# Altium integrated library Renesas Memory.IntLib: 284 symbols (part 2 of 9)
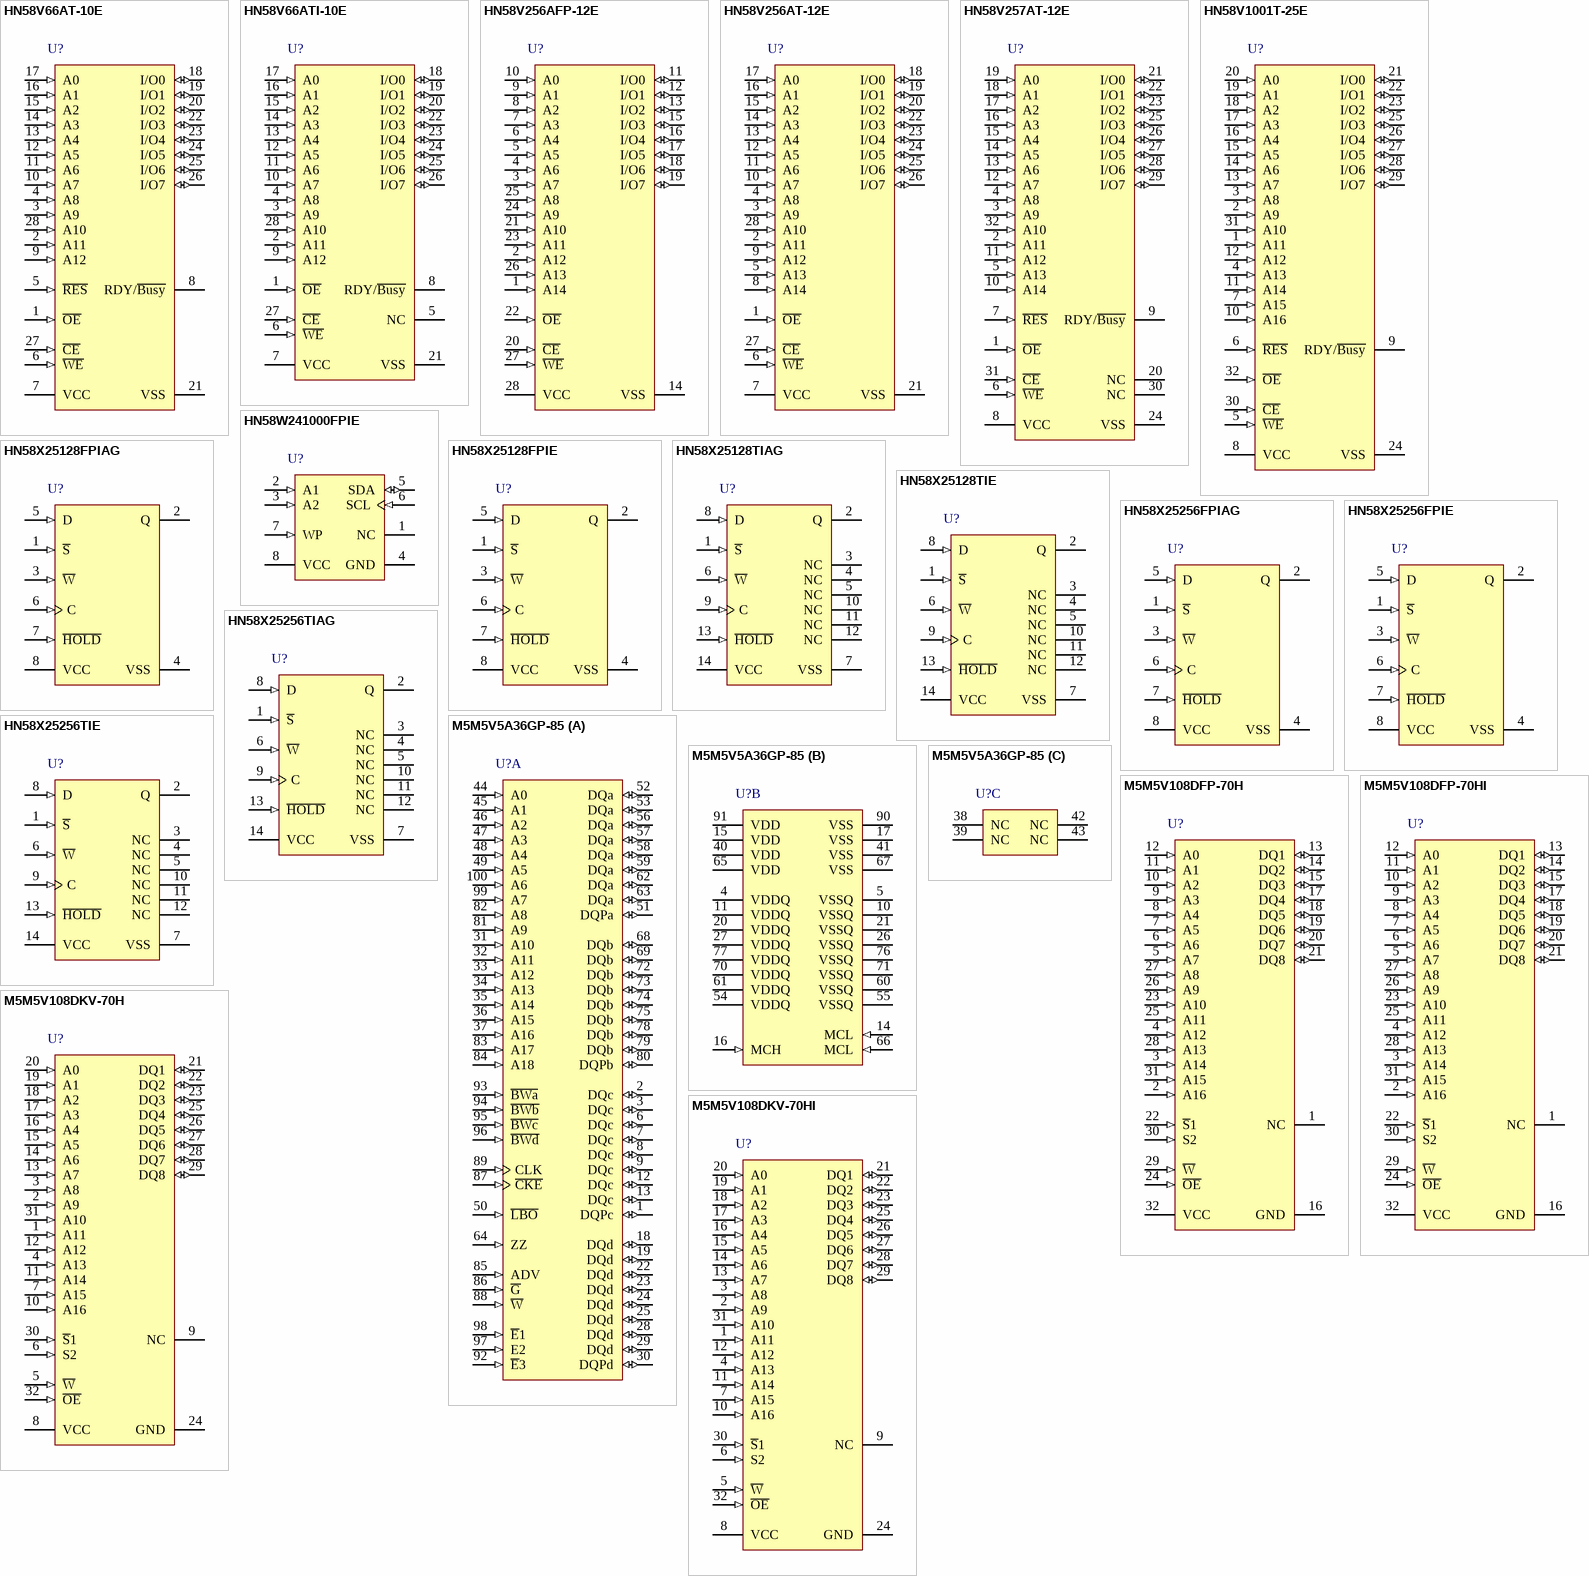
[diagram p16: symbols HN58V66AT-10E to M5M5V108DKV-70HI]

## HN58V1001T-25E
designator U?
HN58V1001 Series 1M EEPROM (128-kword × 8-bit) Ready/Busy and RES function; Published: 3-Mar-2010; DatasheetVersion: Rev.8.00, Nov-2003; PackageVersion: Oct-2006; PackageReference: PTSA0032KD-A; Publisher: Altium Limited; PackageDescription: 32-Pin Plastic Thin Shrink Small Outline Package 0.5 mm Pitch; Code_JEITA: P-TSOP(1)32-8x12.4-0.50; ComponentLink1Description: Manufacturer Link; ComponentLink1URL: http://sg.renesas.com/products/memory/memory_category_landing.jsp; ComponentLink2Description: Datasheet; ComponentLink2URL: http://documentation.renesas.com/eng/products/memory/rej03c0146_hn58v1001.pdf; ComponentLink3Description: Packaging Specification; ComponentLink3URL: http://sg.renesas.com/media/products/common_info/package/pdf/ic/code/ptsa0032kd_a.pdf
footprint PTSA0032KD-A_N (TSSOP, 32-Leads, Body 8x12.4mm, Pitch 0.5mm, IPC Medium Density)
footprint PTSA0032KD-A_L (TSSOP, 32-Leads, Body 8x12.4mm, Pitch 0.5mm, IPC High Density)
footprint PTSA0032KD-A_M (TSSOP, 32-Leads, Body 8x12.4mm, Pitch 0.5mm, IPC Low Density)
pins: 1 A11 (in), 2 A9 (in), 3 A8 (in), 4 A13 (in), 5 ~{WE} (in), 6 ~{RES} (in), 7 A15 (in), 8 VCC (power), 9 RDY/~{Busy} (hiz), 10 A16 (in), 11 A14 (in), 12 A12 (in), 13 A7 (in), 14 A6 (in), 15 A5 (in), 16 A4 (in), 17 A3 (in), 18 A2 (in), 19 A1 (in), 20 A0 (in), 21 I/O0 (io), 22 I/O1 (io), 23 I/O2 (io), 24 VSS (power), 25 I/O3 (io), 26 I/O4 (io), 27 I/O5 (io), 28 I/O6 (io), 29 I/O7 (io), 30 ~{CE} (in), 31 A10 (in), 32 ~{OE} (in)

## HN58W241000FPIE
designator U?
HN58W241000I Two-wire serial interface 1M EEPROM (128-kword × 8-bit); Published: 3-Mar-2010; DatasheetVersion: Rev.3.00, Jul-2005; PackageVersion: Sep-2005; PackageReference: PRSP0008DG-B; Publisher: Altium Limited; PackageDescription: 8-Pin Plastic Small Outline Package 1.27 mm Pitch; Code_JEITA: P-SOP8-5.3x5.65-1.27; ComponentLink1Description: Manufacturer Link; ComponentLink1URL: http://sg.renesas.com/products/memory/memory_category_landing.jsp; ComponentLink2Description: Datasheet; ComponentLink2URL: http://documentation.renesas.com/eng/products/memory/rej03c0138_hn58w24100i.pdf; ComponentLink3Description: Packaging Specification; ComponentLink3URL: http://sg.renesas.com/media/products/common_info/package/pdf/ic/code/prsp0008dg_b.pdf
footprint PRSP0008DG-B_N (SOP, 8-Leads, Body 5.65x5.3mm, Pitch 1.27mm, IPC Medium Density)
footprint PRSP0008DG-B_L (SOP, 8-Leads, Body 5.65x5.3mm, Pitch 1.27mm, IPC High Density)
footprint PRSP0008DG-B_M (SOP, 8-Leads, Body 5.65x5.3mm, Pitch 1.27mm, IPC Low Density)
pins: 1 NC, 2 A1 (in), 3 A2 (in), 4 GND (power), 5 SDA (io), 6 SCL (in), 7 WP (in), 8 VCC (power)

## HN58X25128FPIAG
designator U?
HN58X25xxx Series 128k EEPROM (16-kword × 8-bit); Published: 3-Mar-2010; DatasheetVersion: Rev.1.01, Jan-2009; PackageVersion: Sep-2005; PackageReference: PRSP0008DF-B; Publisher: Altium Limited; PackageDescription: 8-Pin Plastic Small Outline Integrated Circuit 1.27 mm Pitch; Code_JEITA: P-SOP8-3.9x4.89-1.27; ComponentLink1Description: Manufacturer Link; ComponentLink1URL: http://sg.renesas.com/products/memory/memory_category_landing.jsp; ComponentLink2Description: Datasheet; ComponentLink2URL: http://documentation.renesas.com/eng/products/memory/rej03c0307_hn58x25128_256iagds.pdf; ComponentLink3Description: Packaging Specification; ComponentLink3URL: http://sg.renesas.com/media/products/common_info/package/pdf/ic/code/prsp0008df_b.pdf
footprint PRSP0008DF-B_N (SOIC, 8-Leads, Body 4.9x3.9mm, Pitch 1.27mm, IPC Medium Density)
footprint PRSP0008DF-B_L (SOIC, 8-Leads, Body 4.9x3.9mm, Pitch 1.27mm, IPC High Density)
footprint PRSP0008DF-B_M (SOIC, 8-Leads, Body 4.9x3.9mm, Pitch 1.27mm, IPC Low Density)
pins: 1 ~{S} (in), 2 Q (hiz), 3 ~{W} (in), 4 VSS (power), 5 D (in), 6 C (in), 7 ~{HOLD} (in), 8 VCC (power)

## HN58X25128FPIE
designator U?
HN58X25xxx Series 256k EEPROM (32-kword × 8-bit); Published: 3-Mar-2010; DatasheetVersion: Rev.3.00, Jul-2005; PackageVersion: Sep-2005; PackageReference: PRSP0008DF-B; Publisher: Altium Limited; PackageDescription: 8-Pin Plastic Small Outline Integrated Circuit 1.27 mm Pitch; Code_JEITA: P-SOP8-3.9x4.89-1.27; ComponentLink1Description: Manufacturer Link; ComponentLink1URL: http://sg.renesas.com/products/memory/memory_category_landing.jsp; ComponentLink2Description: Datasheet; ComponentLink2URL: http://documentation.renesas.com/eng/products/memory/rej03c0059_hn58x25128i.pdf; ComponentLink3Description: Packaging Specification; ComponentLink3URL: http://sg.renesas.com/media/products/common_info/package/pdf/ic/code/prsp0008df_b.pdf
footprint PRSP0008DF-B_N (SOIC, 8-Leads, Body 4.9x3.9mm, Pitch 1.27mm, IPC Medium Density)
footprint PRSP0008DF-B_L (SOIC, 8-Leads, Body 4.9x3.9mm, Pitch 1.27mm, IPC High Density)
footprint PRSP0008DF-B_M (SOIC, 8-Leads, Body 4.9x3.9mm, Pitch 1.27mm, IPC Low Density)
pins: 1 ~{S} (in), 2 Q (hiz), 3 ~{W} (in), 4 VSS (power), 5 D (in), 6 C (in), 7 ~{HOLD} (in), 8 VCC (power)

## HN58X25128TIAG
designator U?
HN58X25xxx Series 128k EEPROM (16-kword × 8-bit); Published: 3-Mar-2010; DatasheetVersion: Rev.1.01, Jan-2009; PackageVersion: Sep-2005; PackageReference: PTSP0014JA-C; Publisher: Altium Limited; PackageDescription: 14-Pin Plastic Thin Small Outline Package 0.65 mm Pitch; Code_JEITA: P-TSSOP14-4.4x5-0.65; ComponentLink1Description: Manufacturer Link; ComponentLink1URL: http://sg.renesas.com/products/memory/memory_category_landing.jsp; ComponentLink2Description: Datasheet; ComponentLink2URL: http://documentation.renesas.com/eng/products/memory/rej03c0307_hn58x25128_256iagds.pdf; ComponentLink3Description: Packaging Specification; ComponentLink3URL: http://sg.renesas.com/media/products/common_info/package/pdf/ic/code/ptsp0014ja_c.pdf
footprint PTSP0014JA-C_N (TSOP, 14-Leads, Body 5x4.4mm, Pitch 0.65mm, IPC Medium Density)
footprint PTSP0014JA-C_L (TSOP, 14-Leads, Body 5x4.4mm, Pitch 0.65mm, IPC High Density)
footprint PTSP0014JA-C_M (TSOP, 14-Leads, Body 5x4.4mm, Pitch 0.65mm, IPC Low Density)
pins: 1 ~{S} (in), 2 Q (hiz), 3 NC, 4 NC, 5 NC, 6 ~{W} (in), 7 VSS (power), 8 D (in), 9 C (in), 10 NC, 11 NC, 12 NC, 13 ~{HOLD} (in), 14 VCC (power)

## HN58X25128TIE
designator U?
HN58X25xxx Series 256k EEPROM (32-kword × 8-bit); Published: 3-Mar-2010; DatasheetVersion: Rev.3.00, Jul-2005; PackageVersion: Sep-2005; PackageReference: PTSP0014JA-C; Publisher: Altium Limited; PackageDescription: 14-Pin Plastic Thin Small Outline Package 0.65 mm Pitch; Code_JEITA: P-TSSOP14-4.4x5-0.65; ComponentLink1Description: Manufacturer Link; ComponentLink1URL: http://sg.renesas.com/products/memory/memory_category_landing.jsp; ComponentLink2Description: Datasheet; ComponentLink2URL: http://documentation.renesas.com/eng/products/memory/rej03c0059_hn58x25128i.pdf; ComponentLink3Description: Packaging Specification; ComponentLink3URL: http://sg.renesas.com/media/products/common_info/package/pdf/ic/code/ptsp0014ja_c.pdf
footprint PTSP0014JA-C_N (TSOP, 14-Leads, Body 5x4.4mm, Pitch 0.65mm, IPC Medium Density)
footprint PTSP0014JA-C_L (TSOP, 14-Leads, Body 5x4.4mm, Pitch 0.65mm, IPC High Density)
footprint PTSP0014JA-C_M (TSOP, 14-Leads, Body 5x4.4mm, Pitch 0.65mm, IPC Low Density)
pins: 1 ~{S} (in), 2 Q (hiz), 3 NC, 4 NC, 5 NC, 6 ~{W} (in), 7 VSS (power), 8 D (in), 9 C (in), 10 NC, 11 NC, 12 NC, 13 ~{HOLD} (in), 14 VCC (power)

## HN58X25256FPIAG
designator U?
HN58X25xxx Series 256k EEPROM (32-kword × 8-bit); Published: 3-Mar-2010; DatasheetVersion: Rev.1.01, Jan-2009; PackageVersion: Sep-2005; PackageReference: PRSP0008DF-B; Publisher: Altium Limited; PackageDescription: 8-Pin Plastic Small Outline Integrated Circuit 1.27 mm Pitch; Code_JEITA: P-SOP8-3.9x4.89-1.27; ComponentLink1Description: Manufacturer Link; ComponentLink1URL: http://sg.renesas.com/products/memory/memory_category_landing.jsp; ComponentLink2Description: Datasheet; ComponentLink2URL: http://documentation.renesas.com/eng/products/memory/rej03c0307_hn58x25128_256iagds.pdf; ComponentLink3Description: Packaging Specification; ComponentLink3URL: http://sg.renesas.com/media/products/common_info/package/pdf/ic/code/prsp0008df_b.pdf
footprint PRSP0008DF-B_N (SOIC, 8-Leads, Body 4.9x3.9mm, Pitch 1.27mm, IPC Medium Density)
footprint PRSP0008DF-B_L (SOIC, 8-Leads, Body 4.9x3.9mm, Pitch 1.27mm, IPC High Density)
footprint PRSP0008DF-B_M (SOIC, 8-Leads, Body 4.9x3.9mm, Pitch 1.27mm, IPC Low Density)
pins: 1 ~{S} (in), 2 Q (hiz), 3 ~{W} (in), 4 VSS (power), 5 D (in), 6 C (in), 7 ~{HOLD} (in), 8 VCC (power)

## HN58X25256FPIE
designator U?
HN58X25xxx Series 256k EEPROM (32-kword × 8-bit); Published: 3-Mar-2010; DatasheetVersion: Rev.3.00, Jul-2005; PackageVersion: Sep-2005; PackageReference: PRSP0008DF-B; Publisher: Altium Limited; PackageDescription: 8-Pin Plastic Small Outline Integrated Circuit 1.27 mm Pitch; Code_JEITA: P-SOP8-3.9x4.89-1.27; ComponentLink1Description: Manufacturer Link; ComponentLink1URL: http://sg.renesas.com/products/memory/memory_category_landing.jsp; ComponentLink2Description: Datasheet; ComponentLink2URL: http://documentation.renesas.com/eng/products/memory/rej03c0059_hn58x25128i.pdf; ComponentLink3Description: Packaging Specification; ComponentLink3URL: http://sg.renesas.com/media/products/common_info/package/pdf/ic/code/prsp0008df_b.pdf
footprint PRSP0008DF-B_N (SOIC, 8-Leads, Body 4.9x3.9mm, Pitch 1.27mm, IPC Medium Density)
footprint PRSP0008DF-B_L (SOIC, 8-Leads, Body 4.9x3.9mm, Pitch 1.27mm, IPC High Density)
footprint PRSP0008DF-B_M (SOIC, 8-Leads, Body 4.9x3.9mm, Pitch 1.27mm, IPC Low Density)
pins: 1 ~{S} (in), 2 Q (hiz), 3 ~{W} (in), 4 VSS (power), 5 D (in), 6 C (in), 7 ~{HOLD} (in), 8 VCC (power)

## HN58X25256TIAG
designator U?
HN58X25xxx Series 256k EEPROM (32-kword × 8-bit); Published: 3-Mar-2010; DatasheetVersion: Rev.1.01, Jan-2009; PackageVersion: Sep-2005; PackageReference: PTSP0014JA-C; Publisher: Altium Limited; PackageDescription: 14-Pin Plastic Thin Small Outline Package 0.65 mm Pitch; Code_JEITA: P-TSSOP14-4.4x5-0.65; ComponentLink1Description: Manufacturer Link; ComponentLink1URL: http://sg.renesas.com/products/memory/memory_category_landing.jsp; ComponentLink2Description: Datasheet; ComponentLink2URL: http://documentation.renesas.com/eng/products/memory/rej03c0307_hn58x25128_256iagds.pdf; ComponentLink3Description: Packaging Specification; ComponentLink3URL: http://sg.renesas.com/media/products/common_info/package/pdf/ic/code/ptsp0014ja_c.pdf
footprint PTSP0014JA-C_N (TSOP, 14-Leads, Body 5x4.4mm, Pitch 0.65mm, IPC Medium Density)
footprint PTSP0014JA-C_L (TSOP, 14-Leads, Body 5x4.4mm, Pitch 0.65mm, IPC High Density)
footprint PTSP0014JA-C_M (TSOP, 14-Leads, Body 5x4.4mm, Pitch 0.65mm, IPC Low Density)
pins: 1 ~{S} (in), 2 Q (hiz), 3 NC, 4 NC, 5 NC, 6 ~{W} (in), 7 VSS (power), 8 D (in), 9 C (in), 10 NC, 11 NC, 12 NC, 13 ~{HOLD} (in), 14 VCC (power)

## HN58X25256TIE
designator U?
HN58X25xxx Series 256k EEPROM (32-kword × 8-bit); Published: 3-Mar-2010; DatasheetVersion: Rev.3.00, Jul-2005; PackageVersion: Sep-2005; PackageReference: PTSP0014JA-C; Publisher: Altium Limited; PackageDescription: 14-Pin Plastic Thin Small Outline Package 0.65 mm Pitch; Code_JEITA: P-TSSOP14-4.4x5-0.65; ComponentLink1Description: Manufacturer Link; ComponentLink1URL: http://sg.renesas.com/products/memory/memory_category_landing.jsp; ComponentLink2Description: Datasheet; ComponentLink2URL: http://documentation.renesas.com/eng/products/memory/rej03c0059_hn58x25128i.pdf; ComponentLink3Description: Packaging Specification; ComponentLink3URL: http://sg.renesas.com/media/products/common_info/package/pdf/ic/code/ptsp0014ja_c.pdf
footprint PTSP0014JA-C_N (TSOP, 14-Leads, Body 5x4.4mm, Pitch 0.65mm, IPC Medium Density)
footprint PTSP0014JA-C_L (TSOP, 14-Leads, Body 5x4.4mm, Pitch 0.65mm, IPC High Density)
footprint PTSP0014JA-C_M (TSOP, 14-Leads, Body 5x4.4mm, Pitch 0.65mm, IPC Low Density)
pins: 1 ~{S} (in), 2 Q (hiz), 3 NC, 4 NC, 5 NC, 6 ~{W} (in), 7 VSS (power), 8 D (in), 9 C (in), 10 NC, 11 NC, 12 NC, 13 ~{HOLD} (in), 14 VCC (power)

## M5M5V5A36GP-85
designator U?
18874368-BIT(524288-WORD BY 36-BIT) Flow-Through NETWORK SRAM; Published: 3-Mar-2010; DatasheetVersion: Rev.1.0, Aug-2003; PackageVersion: Oct-2005; PackageReference: PLQP0100JA-A; Publisher: Altium Limited; PackageDescription: 100-Pin Thin Plastic Quad Flat Pack Rectangular 0.65 mm Pitch; Code_JEITA: P-LQFP100-14x20-0.65; ComponentLink1Description: Manufacturer Link; ComponentLink1URL: http://sg.renesas.com/products/memory/memory_category_landing.jsp; ComponentLink2Description: Datasheet; ComponentLink2URL: http://documentation.renesas.com/eng/products/memory/rej03c0073_m5m5v5a36gp.pdf; ComponentLink3Description: Packaging Specification; ComponentLink3URL: http://sg.renesas.com/media/products/common_info/package/pdf/ic/code/plqp0100ja_a.pdf
footprint PLQP0100JA-A_N (Thin QFP, 100-Leads, Body 20x14mm, Pitch 0.65mm, IPC Medium Density)
footprint PLQP0100JA-A_L (Thin QFP, 100-Leads, Body 20x14mm, Pitch 0.65mm, IPC High Density)
footprint PLQP0100JA-A_M (Thin QFP, 100-Leads, Body 20x14mm, Pitch 0.65mm, IPC Low Density)
part A pins: 1 DQPc (io), 2 DQc (io), 3 DQc (io), 6 DQc (io), 7 DQc (io), 8 DQc (io), 9 DQc (io), 12 DQc (io), 13 DQc (io), 18 DQd (io), 19 DQd (io), 22 DQd (io), 23 DQd (io), 24 DQd (io), 25 DQd (io), 28 DQd (io), 29 DQd (io), 30 DQPd (io), 31 A10 (in), 32 A11 (in), 33 A12 (in), 34 A13 (in), 35 A14 (in), 36 A15 (in), 37 A16 (in), 44 A0 (in), 45 A1 (in), 46 A2 (in), 47 A3 (in), 48 A4 (in), 49 A5 (in), 50 ~{LBO} (in), 51 DQPa (io), 52 DQa (io), 53 DQa (io), 56 DQa (io), 57 DQa (io), 58 DQa (io), 59 DQa (io), 62 DQa (io), 63 DQa (io), 64 ZZ (in), 68 DQb (io), 69 DQb (io), 72 DQb (io), 73 DQb (io), 74 DQb (io), 75 DQb (io), 78 DQb (io), 79 DQb (io), 80 DQPb (io), 81 A9 (in), 82 A8 (in), 83 A17 (in), 84 A18 (in), 85 ADV (in), 86 ~{G} (in), 87 ~{CKE} (in), 88 ~{W} (in), 89 CLK (in), 92 ~{E}3 (in), 93 ~{BWa} (in), 94 ~{BWb} (in), 95 ~{BWc} (in), 96 ~{BWd} (in), 97 E2 (in), 98 ~{E}1 (in), 99 A7 (in), 100 A6 (in)
part B pins: 4 VDDQ (power), 5 VSSQ (power), 10 VSSQ (power), 11 VDDQ (power), 14 MCL (in), 15 VDD (power), 16 MCH (in), 17 VSS (power), 20 VDDQ (power), 21 VSSQ (power), 26 VSSQ (power), 27 VDDQ (power), 40 VDD (power), 41 VSS (power), 54 VDDQ (power), 55 VSSQ (power), 60 VSSQ (power), 61 VDDQ (power), 65 VDD (power), 66 MCL (in), 67 VSS (power), 70 VDDQ (power), 71 VSSQ (power), 76 VSSQ (power), 77 VDDQ (power), 90 VSS (power), 91 VDD (power)
part C pins: 38 NC, 39 NC, 42 NC, 43 NC

## M5M5V108DFP-70H
designator U?
1048576-bit (131072-word x 8-bit) CMOS STATIC SRAM; Published: 3-Mar-2010; DatasheetVersion: Ver 1.1, Jul-2000; PackageVersion: Sep-2005; PackageReference: PRSP0032DA-A; Publisher: Altium Limited; PackageDescription: 32-Pin Plastic Small Outline Package, 20.8 x 11.4 mm Body, 1.27 mm Pitch; Code_JEITA: P-SOP32-11.4x20.75-1.27; ComponentLink1Description: Manufacturer Link; ComponentLink1URL: http://sg.renesas.com/products/memory/memory_category_landing.jsp; ComponentLink2Description: Datasheet; ComponentLink2URL: http://documentation.renesas.com/eng/products/memory/mej02c2004_m5m5v108dfp.pdf; ComponentLink3Description: Packaging Specification; ComponentLink3URL: http://sg.renesas.com/media/products/common_info/package/pdf/ic/code/prsp0032da_a.pdf
footprint PRSP0032DA-A_N (SOP, 32-Leads, Body 20.8x11.4mm, Pitch 1.27mm, IPC Medium Density)
footprint PRSP0032DA-A_L (SOP, 32-Leads, Body 20.8x11.4mm, Pitch 1.27mm, IPC High Density)
footprint PRSP0032DA-A_M (SOP, 32-Leads, Body 20.8x11.4mm, Pitch 1.27mm, IPC Low Density)
pins: 1 NC, 2 A16 (in), 3 A14 (in), 4 A12 (in), 5 A7 (in), 6 A6 (in), 7 A5 (in), 8 A4 (in), 9 A3 (in), 10 A2 (in), 11 A1 (in), 12 A0 (in), 13 DQ1 (io), 14 DQ2 (io), 15 DQ3 (io), 16 GND (power), 17 DQ4 (io), 18 DQ5 (io), 19 DQ6 (io), 20 DQ7 (io), 21 DQ8 (io), 22 ~{S}1 (in), 23 A10 (in), 24 ~{OE} (in), 25 A11 (in), 26 A9 (in), 27 A8 (in), 28 A13 (in), 29 ~{W} (in), 30 S2 (in), 31 A15 (in), 32 VCC (power)

## M5M5V108DFP-70HI
designator U?
1048576-bit (131072-word x 8-bit) CMOS STATIC SRAM; Published: 3-Mar-2010; DatasheetVersion: Ver 1.1, Jul-2000; PackageVersion: Sep-2005; PackageReference: PRSP0032DA-A; Publisher: Altium Limited; PackageDescription: 32-Pin Plastic Small Outline Package, 20.8 x 11.4 mm Body, 1.27 mm Pitch; Code_JEITA: P-SOP32-11.4x20.75-1.27; ComponentLink1Description: Manufacturer Link; ComponentLink1URL: http://sg.renesas.com/products/memory/memory_category_landing.jsp; ComponentLink2Description: Datasheet; ComponentLink2URL: http://documentation.renesas.com/eng/products/memory/mej02c2005_m5m5v108dvp.pdf; ComponentLink3Description: Packaging Specification; ComponentLink3URL: http://sg.renesas.com/media/products/common_info/package/pdf/ic/code/prsp0032da_a.pdf
footprint PRSP0032DA-A_N (SOP, 32-Leads, Body 20.8x11.4mm, Pitch 1.27mm, IPC Medium Density)
footprint PRSP0032DA-A_L (SOP, 32-Leads, Body 20.8x11.4mm, Pitch 1.27mm, IPC High Density)
footprint PRSP0032DA-A_M (SOP, 32-Leads, Body 20.8x11.4mm, Pitch 1.27mm, IPC Low Density)
pins: 1 NC, 2 A16 (in), 3 A14 (in), 4 A12 (in), 5 A7 (in), 6 A6 (in), 7 A5 (in), 8 A4 (in), 9 A3 (in), 10 A2 (in), 11 A1 (in), 12 A0 (in), 13 DQ1 (io), 14 DQ2 (io), 15 DQ3 (io), 16 GND (power), 17 DQ4 (io), 18 DQ5 (io), 19 DQ6 (io), 20 DQ7 (io), 21 DQ8 (io), 22 ~{S}1 (in), 23 A10 (in), 24 ~{OE} (in), 25 A11 (in), 26 A9 (in), 27 A8 (in), 28 A13 (in), 29 ~{W} (in), 30 S2 (in), 31 A15 (in), 32 VCC (power)

## M5M5V108DKV-70H
designator U?
1048576-bit (131072-word x 8-bit) CMOS STATIC SRAM; Published: 3-Mar-2010; DatasheetVersion: Ver 1.1, Jul-2000; PackageVersion: Sep-2005; PackageReference: PTSA0032KB-A; Publisher: Altium Limited; PackageDescription: 32-Pin Plastic Thin Shrink Small Outline Package 0.5 mm Pitch; Code_JEITA: P-TSOP(1)32-8x11.8-0.50; ComponentLink1Description: Manufacturer Link; ComponentLink1URL: http://sg.renesas.com/products/memory/memory_category_landing.jsp; ComponentLink2Description: Datasheet; ComponentLink2URL: http://documentation.renesas.com/eng/products/memory/mej02c2004_m5m5v108dfp.pdf; ComponentLink3Description: Packaging Specification; ComponentLink3URL: http://sg.renesas.com/media/products/common_info/package/pdf/ic/code/ptsa0032kb_a.pdf
footprint PTSA0032KB-A_N (TSSOP, 32-Leads, Body 8x11.8mm, Pitch 0.5mm, IPC Medium Density)
footprint PTSA0032KB-A_L (TSSOP, 32-Leads, Body 8x11.8mm, Pitch 0.5mm, IPC High Density)
footprint PTSA0032KB-A_M (TSSOP, 32-Leads, Body 8x11.8mm, Pitch 0.5mm, IPC Low Density)
pins: 1 A11 (in), 2 A9 (in), 3 A8 (in), 4 A13 (in), 5 ~{W} (in), 6 S2 (in), 7 A15 (in), 8 VCC (power), 9 NC, 10 A16 (in), 11 A14 (in), 12 A12 (in), 13 A7 (in), 14 A6 (in), 15 A5 (in), 16 A4 (in), 17 A3 (in), 18 A2 (in), 19 A1 (in), 20 A0 (in), 21 DQ1 (io), 22 DQ2 (io), 23 DQ3 (io), 24 GND (power), 25 DQ4 (io), 26 DQ5 (io), 27 DQ6 (io), 28 DQ7 (io), 29 DQ8 (io), 30 ~{S}1 (in), 31 A10 (in), 32 ~{OE} (in)

## M5M5V108DKV-70HI
designator U?
1048576-bit (131072-word x 8-bit) CMOS STATIC SRAM; Published: 3-Mar-2010; DatasheetVersion: Ver 1.1, Jul-2000; PackageVersion: Sep-2005; PackageReference: PTSA0032KB-A; Publisher: Altium Limited; PackageDescription: 32-Pin Plastic Thin Shrink Small Outline Package 0.5 mm Pitch; Code_JEITA: P-TSOP(1)32-8x11.8-0.50; ComponentLink1Description: Manufacturer Link; ComponentLink1URL: http://sg.renesas.com/products/memory/memory_category_landing.jsp; ComponentLink2Description: Datasheet; ComponentLink2URL: http://documentation.renesas.com/eng/products/memory/mej02c2005_m5m5v108dvp.pdf; ComponentLink3Description: Packaging Specification; ComponentLink3URL: http://sg.renesas.com/media/products/common_info/package/pdf/ic/code/ptsa0032kb_a.pdf
footprint PTSA0032KB-A_N (TSSOP, 32-Leads, Body 8x11.8mm, Pitch 0.5mm, IPC Medium Density)
footprint PTSA0032KB-A_L (TSSOP, 32-Leads, Body 8x11.8mm, Pitch 0.5mm, IPC High Density)
footprint PTSA0032KB-A_M (TSSOP, 32-Leads, Body 8x11.8mm, Pitch 0.5mm, IPC Low Density)
pins: 1 A11 (in), 2 A9 (in), 3 A8 (in), 4 A13 (in), 5 ~{W} (in), 6 S2 (in), 7 A15 (in), 8 VCC (power), 9 NC, 10 A16 (in), 11 A14 (in), 12 A12 (in), 13 A7 (in), 14 A6 (in), 15 A5 (in), 16 A4 (in), 17 A3 (in), 18 A2 (in), 19 A1 (in), 20 A0 (in), 21 DQ1 (io), 22 DQ2 (io), 23 DQ3 (io), 24 GND (power), 25 DQ4 (io), 26 DQ5 (io), 27 DQ6 (io), 28 DQ7 (io), 29 DQ8 (io), 30 ~{S}1 (in), 31 A10 (in), 32 ~{OE} (in)

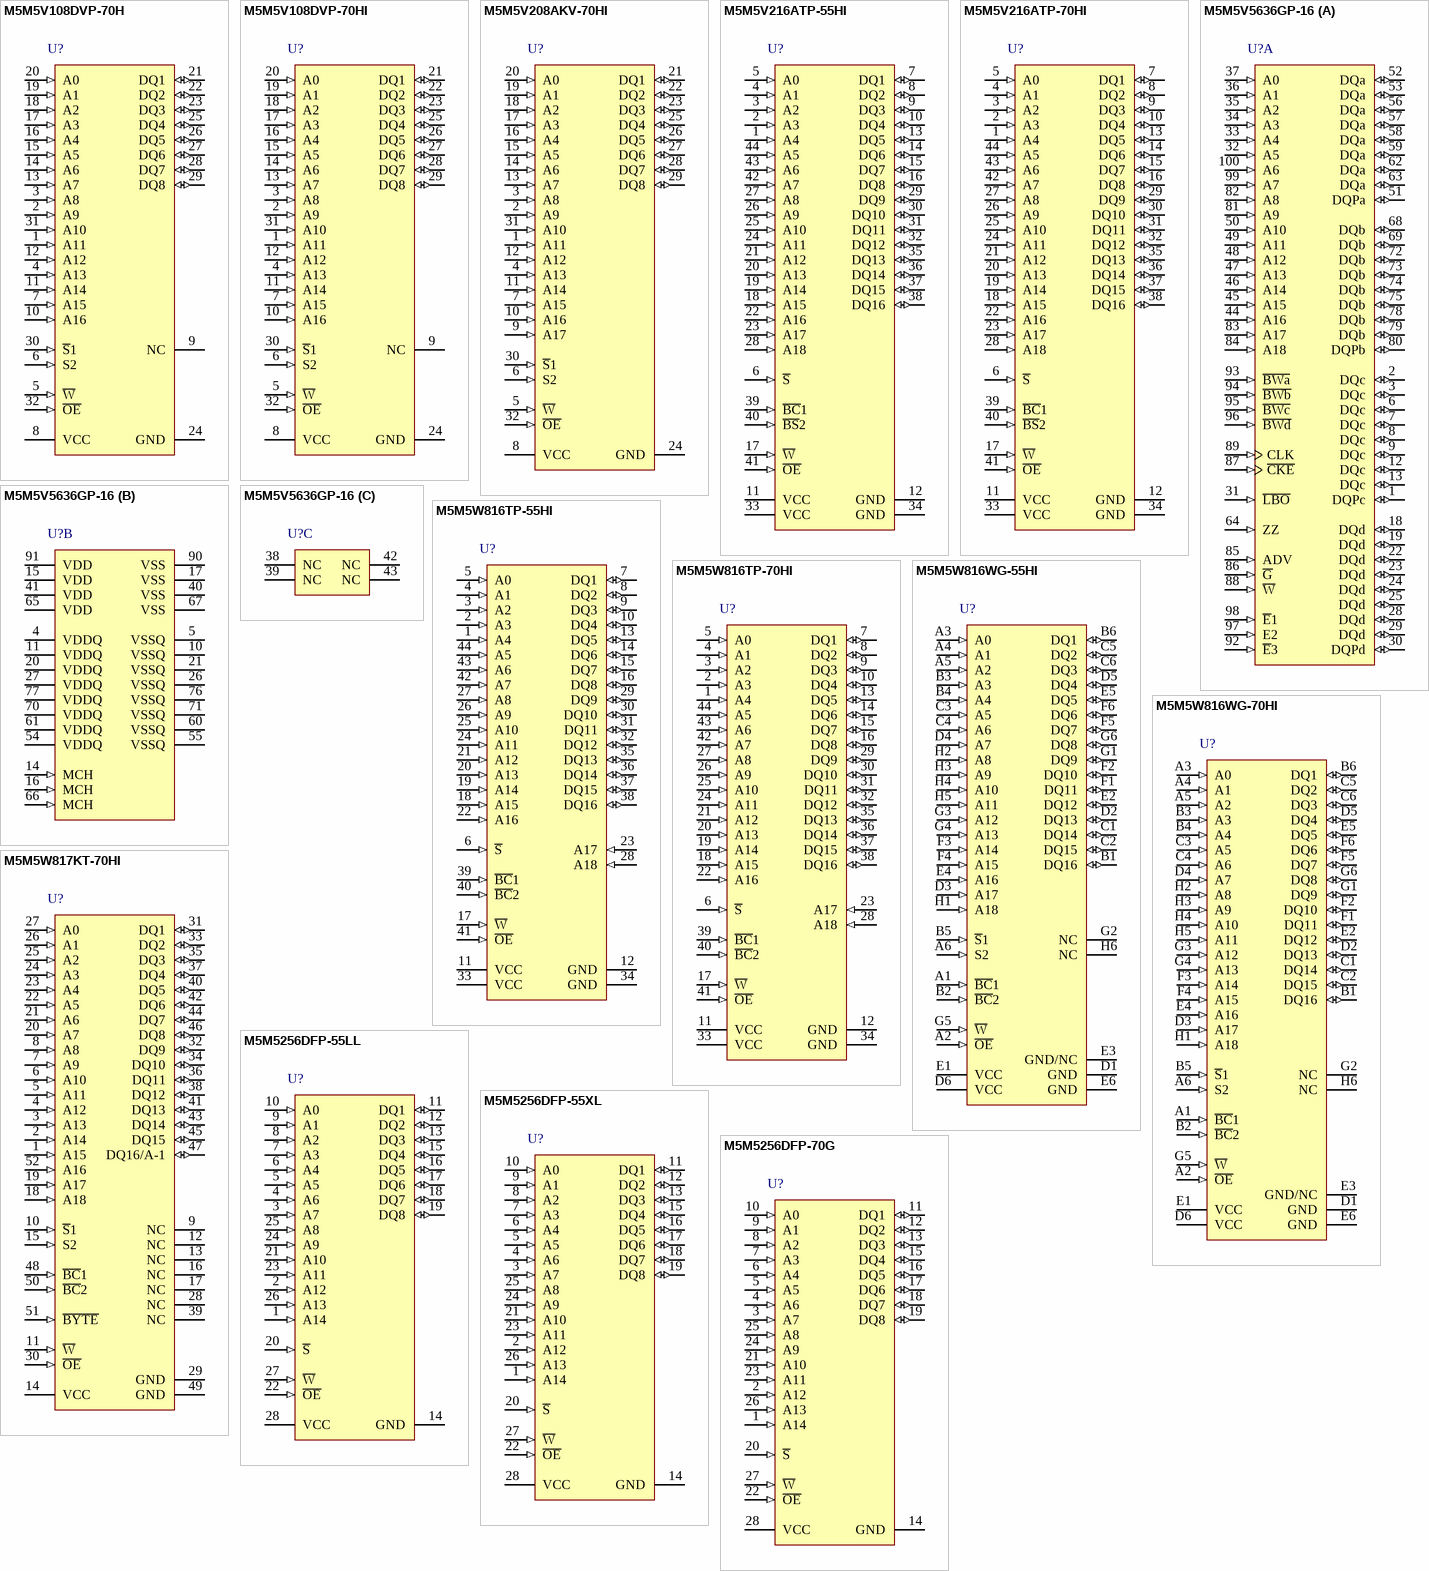
[diagram p3: symbols M5M5V108DVP-70H to M5M5256DFP-70G]

## M5M5V108DVP-70H
designator U?
1048576-bit (131072-word x 8-bit) CMOS STATIC SRAM; Published: 3-Mar-2010; DatasheetVersion: Ver 1.1, Jul-2000; PackageVersion: Sep-2005; PackageReference: PTSA0032KA-A; Publisher: Altium Limited; PackageDescription: 32-Pin Plastic Thin Shrink Small Outline Package 0.5 mm Pitch; Code_JEITA: P-TSOP(1)32-8x18.4-0.50; Code_IPC: TSSOP50P2000-32; ComponentLink1Description: Manufacturer Link; ComponentLink1URL: http://sg.renesas.com/products/memory/memory_category_landing.jsp; ComponentLink2Description: Datasheet; ComponentLink2URL: http://documentation.renesas.com/eng/products/memory/mej02c2004_m5m5v108dfp.pdf; ComponentLink3Description: Packaging Specification; ComponentLink3URL: http://sg.renesas.com/media/products/common_info/package/pdf/ic/code/ptsa0032ka_a.pdf
footprint PTSA0032KA-A_N (TSSOP, 32-Leads, Body 8x18.4mm, Pitch 0.5mm, IPC Medium Density)
footprint PTSA0032KA-A_L (TSSOP, 32-Leads, Body 8x18.4mm, Pitch 0.5mm, IPC High Density)
footprint PTSA0032KA-A_M (TSSOP, 32-Leads, Body 8x18.4mm, Pitch 0.5mm, IPC Low Density)
pins: 1 A11 (in), 2 A9 (in), 3 A8 (in), 4 A13 (in), 5 ~{W} (in), 6 S2 (in), 7 A15 (in), 8 VCC (power), 9 NC, 10 A16 (in), 11 A14 (in), 12 A12 (in), 13 A7 (in), 14 A6 (in), 15 A5 (in), 16 A4 (in), 17 A3 (in), 18 A2 (in), 19 A1 (in), 20 A0 (in), 21 DQ1 (io), 22 DQ2 (io), 23 DQ3 (io), 24 GND (power), 25 DQ4 (io), 26 DQ5 (io), 27 DQ6 (io), 28 DQ7 (io), 29 DQ8 (io), 30 ~{S}1 (in), 31 A10 (in), 32 ~{OE} (in)

## M5M5V108DVP-70HI
designator U?
1048576-bit (131072-word x 8-bit) CMOS STATIC SRAM; Published: 3-Mar-2010; DatasheetVersion: Ver 1.1, Jul-2000; PackageVersion: Sep-2005; PackageReference: PTSA0032KA-A; Publisher: Altium Limited; PackageDescription: 32-Pin Plastic Thin Shrink Small Outline Package 0.5 mm Pitch; Code_JEITA: P-TSOP(1)32-8x18.4-0.50; Code_IPC: TSSOP50P2000-32; ComponentLink1Description: Manufacturer Link; ComponentLink1URL: http://sg.renesas.com/products/memory/memory_category_landing.jsp; ComponentLink2Description: Datasheet; ComponentLink2URL: http://documentation.renesas.com/eng/products/memory/mej02c2005_m5m5v108dvp.pdf; ComponentLink3Description: Packaging Specification; ComponentLink3URL: http://sg.renesas.com/media/products/common_info/package/pdf/ic/code/ptsa0032ka_a.pdf
footprint PTSA0032KA-A_N (TSSOP, 32-Leads, Body 8x18.4mm, Pitch 0.5mm, IPC Medium Density)
footprint PTSA0032KA-A_L (TSSOP, 32-Leads, Body 8x18.4mm, Pitch 0.5mm, IPC High Density)
footprint PTSA0032KA-A_M (TSSOP, 32-Leads, Body 8x18.4mm, Pitch 0.5mm, IPC Low Density)
pins: 1 A11 (in), 2 A9 (in), 3 A8 (in), 4 A13 (in), 5 ~{W} (in), 6 S2 (in), 7 A15 (in), 8 VCC (power), 9 NC, 10 A16 (in), 11 A14 (in), 12 A12 (in), 13 A7 (in), 14 A6 (in), 15 A5 (in), 16 A4 (in), 17 A3 (in), 18 A2 (in), 19 A1 (in), 20 A0 (in), 21 DQ1 (io), 22 DQ2 (io), 23 DQ3 (io), 24 GND (power), 25 DQ4 (io), 26 DQ5 (io), 27 DQ6 (io), 28 DQ7 (io), 29 DQ8 (io), 30 ~{S}1 (in), 31 A10 (in), 32 ~{OE} (in)

## M5M5V208AKV-70HI
designator U?
2097152-bit (262144-word x 8-bit) CMOS SRAM; Published: 3-Mar-2010; DatasheetVersion: RevA0.5, Aug-2003; PackageVersion: Sep-2005; PackageReference: PTSA0032KB-A; Publisher: Altium Limited; PackageDescription: 32-Pin Plastic Thin Shrink Small Outline Package 0.5 mm Pitch; Code_JEITA: P-TSOP(1)32-8x11.8-0.50; ComponentLink1Description: Manufacturer Link; ComponentLink1URL: http://sg.renesas.com/products/memory/memory_category_landing.jsp; ComponentLink2Description: Datasheet; ComponentLink2URL: http://documentation.renesas.com/eng/products/memory/rej03c0104_m5m5v208akv.pdf; ComponentLink3Description: Packaging Specification; ComponentLink3URL: http://sg.renesas.com/media/products/common_info/package/pdf/ic/code/ptsa0032kb_a.pdf
footprint PTSA0032KB-A_N (TSSOP, 32-Leads, Body 8x11.8mm, Pitch 0.5mm, IPC Medium Density)
footprint PTSA0032KB-A_L (TSSOP, 32-Leads, Body 8x11.8mm, Pitch 0.5mm, IPC High Density)
footprint PTSA0032KB-A_M (TSSOP, 32-Leads, Body 8x11.8mm, Pitch 0.5mm, IPC Low Density)
pins: 1 A11 (in), 2 A9 (in), 3 A8 (in), 4 A13 (in), 5 ~{W} (in), 6 S2 (in), 7 A15 (in), 8 VCC (power), 9 A17 (in), 10 A16 (in), 11 A14 (in), 12 A12 (in), 13 A7 (in), 14 A6 (in), 15 A5 (in), 16 A4 (in), 17 A3 (in), 18 A2 (in), 19 A1 (in), 20 A0 (in), 21 DQ1 (io), 22 DQ2 (io), 23 DQ3 (io), 24 GND (power), 25 DQ4 (io), 26 DQ5 (io), 27 DQ6 (io), 28 DQ7 (io), 29 DQ8 (io), 30 ~{S}1 (in), 31 A10 (in), 32 ~{OE} (in)

## M5M5V216ATP-55HI
designator U?
2097152-bit (131072-word x 16-bit) CMOS SRAM; Published: 3-Mar-2010; DatasheetVersion: Rev03, Jan-2003; PackageVersion: Sep-2005; PackageReference: PTSB0044GA-A; Publisher: Altium Limited; PackageDescription: 44-Pin Plastic Small Outline Package 0.8 mm Pitch; Code_JEITA: P-TSOP(2)44-10.16x18.41-0.80; ComponentLink1Description: Manufacturer Link; ComponentLink1URL: http://sg.renesas.com/products/memory/memory_category_landing.jsp; ComponentLink2Description: Datasheet; ComponentLink2URL: http://documentation.renesas.com/eng/products/memory/mej02c2006_m5m5v216atp.pdf; ComponentLink3Description: Packaging Specification; ComponentLink3URL: http://sg.renesas.com/media/products/common_info/package/pdf/ic/code/ptsb0044ga_a.pdf
footprint PTSB0044GA-A_N (SOP, 44-Leads, Body 18.4x10.16mm, Pitch 0.8mm, IPC Medium Density)
footprint PTSB0044GA-A_L (SOP, 44-Leads, Body 18.4x10.16mm, Pitch 0.8mm, IPC High Density)
footprint PTSB0044GA-A_M (SOP, 44-Leads, Body 18.4x10.16mm, Pitch 0.8mm, IPC Low Density)
pins: 1 A4 (in), 2 A3 (in), 3 A2 (in), 4 A1 (in), 5 A0 (in), 6 ~{S} (in), 7 DQ1 (io), 8 DQ2 (io), 9 DQ3 (io), 10 DQ4 (io), 11 VCC (power), 12 GND (power), 13 DQ5 (io), 14 DQ6 (io), 15 DQ7 (io), 16 DQ8 (io), 17 ~{W} (in), 18 A15 (in), 19 A14 (in), 20 A13 (in), 21 A12 (in), 22 A16 (in), 23 A17 (in), 24 A11 (in), 25 A10 (in), 26 A9 (in), 27 A8 (in), 28 A18 (in), 29 DQ9 (io), 30 DQ10 (io), 31 DQ11 (io), 32 DQ12 (io), 33 VCC (power), 34 GND (power), 35 DQ13 (io), 36 DQ14 (io), 37 DQ15 (io), 38 DQ16 (io), 39 ~{BC}1 (in), 40 ~{BS}2 (in), 41 ~{OE} (in), 42 A7 (in), 43 A6 (in), 44 A5 (in)

## M5M5V216ATP-70HI
designator U?
2097152-bit (131072-word x 16-bit) CMOS SRAM; Published: 3-Mar-2010; DatasheetVersion: Rev03, Jan-2003; PackageVersion: Sep-2005; PackageReference: PTSB0044GA-A; Publisher: Altium Limited; PackageDescription: 44-Pin Plastic Small Outline Package 0.8 mm Pitch; Code_JEITA: P-TSOP(2)44-10.16x18.41-0.80; ComponentLink1Description: Manufacturer Link; ComponentLink1URL: http://sg.renesas.com/products/memory/memory_category_landing.jsp; ComponentLink2Description: Datasheet; ComponentLink2URL: http://documentation.renesas.com/eng/products/memory/mej02c2006_m5m5v216atp.pdf; ComponentLink3Description: Packaging Specification; ComponentLink3URL: http://sg.renesas.com/media/products/common_info/package/pdf/ic/code/ptsb0044ga_a.pdf
footprint PTSB0044GA-A_N (SOP, 44-Leads, Body 18.4x10.16mm, Pitch 0.8mm, IPC Medium Density)
footprint PTSB0044GA-A_L (SOP, 44-Leads, Body 18.4x10.16mm, Pitch 0.8mm, IPC High Density)
footprint PTSB0044GA-A_M (SOP, 44-Leads, Body 18.4x10.16mm, Pitch 0.8mm, IPC Low Density)
pins: 1 A4 (in), 2 A3 (in), 3 A2 (in), 4 A1 (in), 5 A0 (in), 6 ~{S} (in), 7 DQ1 (io), 8 DQ2 (io), 9 DQ3 (io), 10 DQ4 (io), 11 VCC (power), 12 GND (power), 13 DQ5 (io), 14 DQ6 (io), 15 DQ7 (io), 16 DQ8 (io), 17 ~{W} (in), 18 A15 (in), 19 A14 (in), 20 A13 (in), 21 A12 (in), 22 A16 (in), 23 A17 (in), 24 A11 (in), 25 A10 (in), 26 A9 (in), 27 A8 (in), 28 A18 (in), 29 DQ9 (io), 30 DQ10 (io), 31 DQ11 (io), 32 DQ12 (io), 33 VCC (power), 34 GND (power), 35 DQ13 (io), 36 DQ14 (io), 37 DQ15 (io), 38 DQ16 (io), 39 ~{BC}1 (in), 40 ~{BS}2 (in), 41 ~{OE} (in), 42 A7 (in), 43 A6 (in), 44 A5 (in)

## M5M5V5636GP-16
designator U?
18874368-BIT(524288-WORD BY 36-BIT) NETWORK SRAM; Published: 3-Mar-2010; DatasheetVersion: Rev.2.0, Mar-2004; PackageVersion: Oct-2005; PackageReference: PLQP0100JA-A; Publisher: Altium Limited; PackageDescription: 100-Pin Thin Plastic Quad Flat Pack Rectangular 0.65 mm Pitch; Code_JEITA: P-LQFP100-14x20-0.65; ComponentLink1Description: Manufacturer Link; ComponentLink1URL: http://sg.renesas.com/products/memory/memory_category_landing.jsp; ComponentLink2Description: Datasheet; ComponentLink2URL: http://documentation.renesas.com/eng/products/memory/rej03c0074_m5m5v5636gp.pdf; ComponentLink3Description: Packaging Specification; ComponentLink3URL: http://sg.renesas.com/media/products/common_info/package/pdf/ic/code/plqp0100ja_a.pdf
footprint PLQP0100JA-A_N (Thin QFP, 100-Leads, Body 20x14mm, Pitch 0.65mm, IPC Medium Density)
footprint PLQP0100JA-A_L (Thin QFP, 100-Leads, Body 20x14mm, Pitch 0.65mm, IPC High Density)
footprint PLQP0100JA-A_M (Thin QFP, 100-Leads, Body 20x14mm, Pitch 0.65mm, IPC Low Density)
part A pins: 1 DQPc (io), 2 DQc (io), 3 DQc (io), 6 DQc (io), 7 DQc (io), 8 DQc (io), 9 DQc (io), 12 DQc (io), 13 DQc (io), 18 DQd (io), 19 DQd (io), 22 DQd (io), 23 DQd (io), 24 DQd (io), 25 DQd (io), 28 DQd (io), 29 DQd (io), 30 DQPd (io), 31 ~{LBO} (in), 32 A5 (in), 33 A4 (in), 34 A3 (in), 35 A2 (in), 36 A1 (in), 37 A0 (in), 44 A16 (in), 45 A15 (in), 46 A14 (in), 47 A13 (in), 48 A12 (in), 49 A11 (in), 50 A10 (in), 51 DQPa (io), 52 DQa (io), 53 DQa (io), 56 DQa (io), 57 DQa (io), 58 DQa (io), 59 DQa (io), 62 DQa (io), 63 DQa (io), 64 ZZ (in), 68 DQb (io), 69 DQb (io), 72 DQb (io), 73 DQb (io), 74 DQb (io), 75 DQb (io), 78 DQb (io), 79 DQb (io), 80 DQPb (io), 81 A9 (in), 82 A8 (in), 83 A17 (in), 84 A18 (in), 85 ADV (in), 86 ~{G} (in), 87 ~{CKE} (in), 88 ~{W} (in), 89 CLK (in), 92 ~{E}3 (in), 93 ~{BWa} (in), 94 ~{BWb} (in), 95 ~{BWc} (in), 96 ~{BWd} (in), 97 E2 (in), 98 ~{E}1 (in), 99 A7 (in), 100 A6 (in)
part B pins: 4 VDDQ (power), 5 VSSQ (power), 10 VSSQ (power), 11 VDDQ (power), 14 MCH (in), 15 VDD (power), 16 MCH (in), 17 VSS (power), 20 VDDQ (power), 21 VSSQ (power), 26 VSSQ (power), 27 VDDQ (power), 40 VSS (power), 41 VDD (power), 54 VDDQ (power), 55 VSSQ (power), 60 VSSQ (power), 61 VDDQ (power), 65 VDD (power), 66 MCH (in), 67 VSS (power), 70 VDDQ (power), 71 VSSQ (power), 76 VSSQ (power), 77 VDDQ (power), 90 VSS (power), 91 VDD (power)
part C pins: 38 NC, 39 NC, 42 NC, 43 NC

## M5M5W816TP-55HI
designator U?
8388608-bit (524288-word x 16-bit) CMOS SRAM; Published: 3-Mar-2010; DatasheetVersion: Ver6.10, Aug-2002; PackageVersion: Jan-2005; PackageReference: 44P3W-P; Publisher: Altium Limited; PackageDescription: 44-Pin Plastic Small Outline Package 0.8 mm Pitch; Code_JEITA: TSOP(2)44-P-400-0.80; ComponentLink1Description: Manufacturer Link; ComponentLink1URL: http://sg.renesas.com/products/memory/memory_category_landing.jsp; ComponentLink2Description: Datasheet; ComponentLink2URL: http://documentation.renesas.com/eng/products/memory/mej02c2012_m5m5w816tp.pdf
footprint 44P3W-P_N (SOP, 44-Leads, Body 18.4x10.16mm, Pitch 0.8mm, IPC Medium Density)
footprint 44P3W-P_L (SOP, 44-Leads, Body 18.4x10.16mm, Pitch 0.8mm, IPC High Density)
footprint 44P3W-P_M (SOP, 44-Leads, Body 18.4x10.16mm, Pitch 0.8mm, IPC Low Density)
pins: 1 A4 (in), 2 A3 (in), 3 A2 (in), 4 A1 (in), 5 A0 (in), 6 ~{S} (in), 7 DQ1 (io), 8 DQ2 (io), 9 DQ3 (io), 10 DQ4 (io), 11 VCC (power), 12 GND (power), 13 DQ5 (io), 14 DQ6 (io), 15 DQ7 (io), 16 DQ8 (io), 17 ~{W} (in), 18 A15 (in), 19 A14 (in), 20 A13 (in), 21 A12 (in), 22 A16 (in), 23 A17 (in), 24 A11 (in), 25 A10 (in), 26 A9 (in), 27 A8 (in), 28 A18 (in), 29 DQ9 (io), 30 DQ10 (io), 31 DQ11 (io), 32 DQ12 (io), 33 VCC (power), 34 GND (power), 35 DQ13 (io), 36 DQ14 (io), 37 DQ15 (io), 38 DQ16 (io), 39 ~{BC}1 (in), 40 ~{BC}2 (in), 41 ~{OE} (in), 42 A7 (in), 43 A6 (in), 44 A5 (in)

## M5M5W816TP-70HI
designator U?
8388608-bit (524288-word x 16-bit) CMOS SRAM; Published: 3-Mar-2010; DatasheetVersion: Ver6.10, Aug-2002; PackageVersion: Jan-2005; PackageReference: 44P3W-P; Publisher: Altium Limited; PackageDescription: 44-Pin Plastic Small Outline Package 0.8 mm Pitch; Code_JEITA: TSOP(2)44-P-400-0.80; ComponentLink1Description: Manufacturer Link; ComponentLink1URL: http://sg.renesas.com/products/memory/memory_category_landing.jsp; ComponentLink2Description: Datasheet; ComponentLink2URL: http://documentation.renesas.com/eng/products/memory/mej02c2012_m5m5w816tp.pdf
footprint 44P3W-P_N (SOP, 44-Leads, Body 18.4x10.16mm, Pitch 0.8mm, IPC Medium Density)
footprint 44P3W-P_L (SOP, 44-Leads, Body 18.4x10.16mm, Pitch 0.8mm, IPC High Density)
footprint 44P3W-P_M (SOP, 44-Leads, Body 18.4x10.16mm, Pitch 0.8mm, IPC Low Density)
pins: 1 A4 (in), 2 A3 (in), 3 A2 (in), 4 A1 (in), 5 A0 (in), 6 ~{S} (in), 7 DQ1 (io), 8 DQ2 (io), 9 DQ3 (io), 10 DQ4 (io), 11 VCC (power), 12 GND (power), 13 DQ5 (io), 14 DQ6 (io), 15 DQ7 (io), 16 DQ8 (io), 17 ~{W} (in), 18 A15 (in), 19 A14 (in), 20 A13 (in), 21 A12 (in), 22 A16 (in), 23 A17 (in), 24 A11 (in), 25 A10 (in), 26 A9 (in), 27 A8 (in), 28 A18 (in), 29 DQ9 (io), 30 DQ10 (io), 31 DQ11 (io), 32 DQ12 (io), 33 VCC (power), 34 GND (power), 35 DQ13 (io), 36 DQ14 (io), 37 DQ15 (io), 38 DQ16 (io), 39 ~{BC}1 (in), 40 ~{BC}2 (in), 41 ~{OE} (in), 42 A7 (in), 43 A6 (in), 44 A5 (in)

## M5M5W816WG-55HI
designator U?
8388608-bit (524288-word x 16-bit) CMOS SRAM; Published: 3-Mar-2010; DatasheetVersion: Ver6.00, Apr-2002; PackageVersion: Sep-2005; PackageReference: PTBG0048HB-A; Publisher: Altium Limited; PackageDescription: 48-Ball Plastic Thin Fine-Pitch BGA, 8.5 x7.5 mm Body, 0.75 mm Pitch; Code_JEITA: P-TFBGA48-7.5x8.5-0.75; ComponentLink1Description: Manufacturer Link; ComponentLink1URL: http://sg.renesas.com/products/memory/memory_category_landing.jsp; ComponentLink2Description: Datasheet; ComponentLink2URL: http://documentation.renesas.com/eng/products/memory/mej02c2013_m5m5w816wg.pdf; ComponentLink3Description: Packaging Specification; ComponentLink3URL: http://sg.renesas.com/media/products/common_info/package/pdf/ic/code/ptbg0048hb_a.pdf
footprint PTBG0048HB-A (BGA, 48-Leads, Body 8.5x7.5mm, Pitch 0.75mm)
pins: A1 ~{BC}1 (in), A2 ~{OE} (in), A3 A0 (in), A4 A1 (in), A5 A2 (in), A6 S2 (in), B1 DQ16 (io), B2 ~{BC}2 (in), B3 A3 (in), B4 A4 (in), B5 ~{S}1 (in), B6 DQ1 (io), C1 DQ14 (io), C2 DQ15 (io), C3 A5 (in), C4 A6 (in), C5 DQ2 (io), C6 DQ3 (io), D1 GND (power), D2 DQ13 (io), D3 A17 (in), D4 A7 (in), D5 DQ4 (io), D6 VCC (power), E1 VCC (power), E2 DQ12 (io), E3 GND/NC, E4 A16 (in), E5 DQ5 (io), E6 GND (power), F1 DQ11 (io), F2 DQ10 (io), F3 A14 (in), F4 A15 (in), F5 DQ7 (io), F6 DQ6 (io), G1 DQ9 (io), G2 NC, G3 A12 (in), G4 A13 (in), G5 ~{W} (in), G6 DQ8 (io), H1 A18 (in), H2 A8 (in), H3 A9 (in), H4 A10 (in), H5 A11 (in), H6 NC

## M5M5W816WG-70HI
designator U?
8388608-bit (524288-word x 16-bit) CMOS SRAM; Published: 3-Mar-2010; DatasheetVersion: Ver6.00, Apr-2002; PackageVersion: Sep-2005; PackageReference: PTBG0048HB-A; Publisher: Altium Limited; PackageDescription: 48-Ball Plastic Thin Fine-Pitch BGA, 8.5 x7.5 mm Body, 0.75 mm Pitch; Code_JEITA: P-TFBGA48-7.5x8.5-0.75; ComponentLink1Description: Manufacturer Link; ComponentLink1URL: http://sg.renesas.com/products/memory/memory_category_landing.jsp; ComponentLink2Description: Datasheet; ComponentLink2URL: http://documentation.renesas.com/eng/products/memory/mej02c2013_m5m5w816wg.pdf; ComponentLink3Description: Packaging Specification; ComponentLink3URL: http://sg.renesas.com/media/products/common_info/package/pdf/ic/code/ptbg0048hb_a.pdf
footprint PTBG0048HB-A (BGA, 48-Leads, Body 8.5x7.5mm, Pitch 0.75mm)
pins: A1 ~{BC}1 (in), A2 ~{OE} (in), A3 A0 (in), A4 A1 (in), A5 A2 (in), A6 S2 (in), B1 DQ16 (io), B2 ~{BC}2 (in), B3 A3 (in), B4 A4 (in), B5 ~{S}1 (in), B6 DQ1 (io), C1 DQ14 (io), C2 DQ15 (io), C3 A5 (in), C4 A6 (in), C5 DQ2 (io), C6 DQ3 (io), D1 GND (power), D2 DQ13 (io), D3 A17 (in), D4 A7 (in), D5 DQ4 (io), D6 VCC (power), E1 VCC (power), E2 DQ12 (io), E3 GND/NC, E4 A16 (in), E5 DQ5 (io), E6 GND (power), F1 DQ11 (io), F2 DQ10 (io), F3 A14 (in), F4 A15 (in), F5 DQ7 (io), F6 DQ6 (io), G1 DQ9 (io), G2 NC, G3 A12 (in), G4 A13 (in), G5 ~{W} (in), G6 DQ8 (io), H1 A18 (in), H2 A8 (in), H3 A9 (in), H4 A10 (in), H5 A11 (in), H6 NC

## M5M5W817KT-70HI
designator U?
8388608-bit (524288-word x 16-bit / 10485776-word x 8-bit) CMOS SRAM; Published: 3-Mar-2010; DatasheetVersion: Ver0.00, Sep-2002; PackageVersion: Sep-2005; PackageReference: PTSB0052LB-A; Publisher: Altium Limited; PackageDescription: 52-Pin Thin Shrink Small Outline Package 0.4 mm Pitch; Code_JEITA: P-TSOP(2)52-8.89x10.79-0.40; ComponentLink1Description: Manufacturer Link; ComponentLink1URL: http://sg.renesas.com/products/memory/memory_category_landing.jsp; ComponentLink2Description: Datasheet; ComponentLink2URL: http://documentation.renesas.com/eng/products/memory/mej02c2014_m5m5w817kt.pdf; ComponentLink3Description: Packaging Specification; ComponentLink3URL: http://sg.renesas.com/media/products/common_info/package/pdf/ic/code/ptsb0052lb_a.pdf
footprint PTSB0052LB-A_N (TSSOP, 52-Leads, Body 10.8x8.9mm, Pitch 0.4mm, IPC Medium Density)
footprint PTSB0052LB-A_L (TSSOP, 52-Leads, Body 10.8x8.9mm, Pitch 0.4mm, IPC High Density)
footprint PTSB0052LB-A_M (TSSOP, 52-Leads, Body 10.8x8.9mm, Pitch 0.4mm, IPC Low Density)
pins: 1 A15 (in), 2 A14 (in), 3 A13 (in), 4 A12 (in), 5 A11 (in), 6 A10 (in), 7 A9 (in), 8 A8 (in), 9 NC, 10 ~{S}1 (in), 11 ~{W} (in), 12 NC, 13 NC, 14 VCC (power), 15 S2 (in), 16 NC, 17 NC, 18 A18 (in), 19 A17 (in), 20 A7 (in), 21 A6 (in), 22 A5 (in), 23 A4 (in), 24 A3 (in), 25 A2 (in), 26 A1 (in), 27 A0 (in), 28 NC, 29 GND (power), 30 ~{OE} (in), 31 DQ1 (io), 32 DQ9 (io), 33 DQ2 (io), 34 DQ10 (io), 35 DQ3 (io), 36 DQ11 (io), 37 DQ4 (io), 38 DQ12 (io), 39 NC, 40 DQ5 (io), 41 DQ13 (io), 42 DQ6 (io), 43 DQ14 (io), 44 DQ7 (io), 45 DQ15 (io), 46 DQ8 (io), 47 DQ16/A-1 (io), 48 ~{BC}1 (in), 49 GND (power), 50 ~{BC}2 (in), 51 ~{BYTE} (in), 52 A16 (in)

## M5M5256DFP-55LL
designator U?
262144-bit (32768-word x 8-bit) CMOS SRAM; Published: 3-Mar-2010; DatasheetVersion: Rev.2.1, Feb-2004; PackageVersion: Sep-2005; PackageReference: PRSP0028DB-B; Publisher: Altium Limited; PackageDescription: 28-Pin Small Outline Integrated Circuit 1.27 mm Pitch; Code_JEITA: P-SOP28-8.4x17.5-1.27; ComponentLink1Description: Manufacturer Link; ComponentLink1URL: http://sg.renesas.com/products/memory/memory_category_landing.jsp; ComponentLink2Description: Datasheet; ComponentLink2URL: http://documentation.renesas.com/eng/products/memory/rej03c0055_m5m5256dfp.pdf; ComponentLink3Description: Packaging Specification; ComponentLink3URL: http://sg.renesas.com/media/products/common_info/package/pdf/ic/code/prsp0028db_b.pdf
footprint PRSP0028DB-B_N (SOIC, 28-Leads, Body 17.5x8.4mm, Pitch 1.27mm, IPC Medium Density)
footprint PRSP0028DB-B_L (SOIC, 28-Leads, Body 17.5x8.4mm, Pitch 1.27mm, IPC High Density)
footprint PRSP0028DB-B_M (SOIC, 28-Leads, Body 17.5x8.4mm, Pitch 1.27mm, IPC Low Density)
pins: 1 A14 (in), 2 A12 (in), 3 A7 (in), 4 A6 (in), 5 A5 (in), 6 A4 (in), 7 A3 (in), 8 A2 (in), 9 A1 (in), 10 A0 (in), 11 DQ1 (io), 12 DQ2 (io), 13 DQ3 (io), 14 GND (power), 15 DQ4 (io), 16 DQ5 (io), 17 DQ6 (io), 18 DQ7 (io), 19 DQ8 (io), 20 ~{S} (in), 21 A10 (in), 22 ~{OE} (in), 23 A11 (in), 24 A9 (in), 25 A8 (in), 26 A13 (in), 27 ~{W} (in), 28 VCC (power)

## M5M5256DFP-55XL
designator U?
262144-bit (32768-word x 8-bit) CMOS SRAM; Published: 3-Mar-2010; DatasheetVersion: Rev.2.1, Feb-2004; PackageVersion: Sep-2005; PackageReference: PRSP0028DB-B; Publisher: Altium Limited; PackageDescription: 28-Pin Small Outline Integrated Circuit 1.27 mm Pitch; Code_JEITA: P-SOP28-8.4x17.5-1.27; ComponentLink1Description: Manufacturer Link; ComponentLink1URL: http://sg.renesas.com/products/memory/memory_category_landing.jsp; ComponentLink2Description: Datasheet; ComponentLink2URL: http://documentation.renesas.com/eng/products/memory/rej03c0055_m5m5256dfp.pdf; ComponentLink3Description: Packaging Specification; ComponentLink3URL: http://sg.renesas.com/media/products/common_info/package/pdf/ic/code/prsp0028db_b.pdf
footprint PRSP0028DB-B_N (SOIC, 28-Leads, Body 17.5x8.4mm, Pitch 1.27mm, IPC Medium Density)
footprint PRSP0028DB-B_L (SOIC, 28-Leads, Body 17.5x8.4mm, Pitch 1.27mm, IPC High Density)
footprint PRSP0028DB-B_M (SOIC, 28-Leads, Body 17.5x8.4mm, Pitch 1.27mm, IPC Low Density)
pins: 1 A14 (in), 2 A12 (in), 3 A7 (in), 4 A6 (in), 5 A5 (in), 6 A4 (in), 7 A3 (in), 8 A2 (in), 9 A1 (in), 10 A0 (in), 11 DQ1 (io), 12 DQ2 (io), 13 DQ3 (io), 14 GND (power), 15 DQ4 (io), 16 DQ5 (io), 17 DQ6 (io), 18 DQ7 (io), 19 DQ8 (io), 20 ~{S} (in), 21 A10 (in), 22 ~{OE} (in), 23 A11 (in), 24 A9 (in), 25 A8 (in), 26 A13 (in), 27 ~{W} (in), 28 VCC (power)

## M5M5256DFP-70G
designator U?
262144-bit (32768-word x 8-bit) CMOS SRAM; Published: 3-Mar-2010; DatasheetVersion: Rev.2.1, Feb-2004; PackageVersion: Sep-2005; PackageReference: PRSP0028DB-B; Publisher: Altium Limited; PackageDescription: 28-Pin Small Outline Integrated Circuit 1.27 mm Pitch; Code_JEITA: P-SOP28-8.4x17.5-1.27; ComponentLink1Description: Manufacturer Link; ComponentLink1URL: http://sg.renesas.com/products/memory/memory_category_landing.jsp; ComponentLink2Description: Datasheet; ComponentLink2URL: http://documentation.renesas.com/eng/products/memory/rej03c0055_m5m5256dfp.pdf; ComponentLink3Description: Packaging Specification; ComponentLink3URL: http://sg.renesas.com/media/products/common_info/package/pdf/ic/code/prsp0028db_b.pdf
footprint PRSP0028DB-B_N (SOIC, 28-Leads, Body 17.5x8.4mm, Pitch 1.27mm, IPC Medium Density)
footprint PRSP0028DB-B_L (SOIC, 28-Leads, Body 17.5x8.4mm, Pitch 1.27mm, IPC High Density)
footprint PRSP0028DB-B_M (SOIC, 28-Leads, Body 17.5x8.4mm, Pitch 1.27mm, IPC Low Density)
pins: 1 A14 (in), 2 A12 (in), 3 A7 (in), 4 A6 (in), 5 A5 (in), 6 A4 (in), 7 A3 (in), 8 A2 (in), 9 A1 (in), 10 A0 (in), 11 DQ1 (io), 12 DQ2 (io), 13 DQ3 (io), 14 GND (power), 15 DQ4 (io), 16 DQ5 (io), 17 DQ6 (io), 18 DQ7 (io), 19 DQ8 (io), 20 ~{S} (in), 21 A10 (in), 22 ~{OE} (in), 23 A11 (in), 24 A9 (in), 25 A8 (in), 26 A13 (in), 27 ~{W} (in), 28 VCC (power)

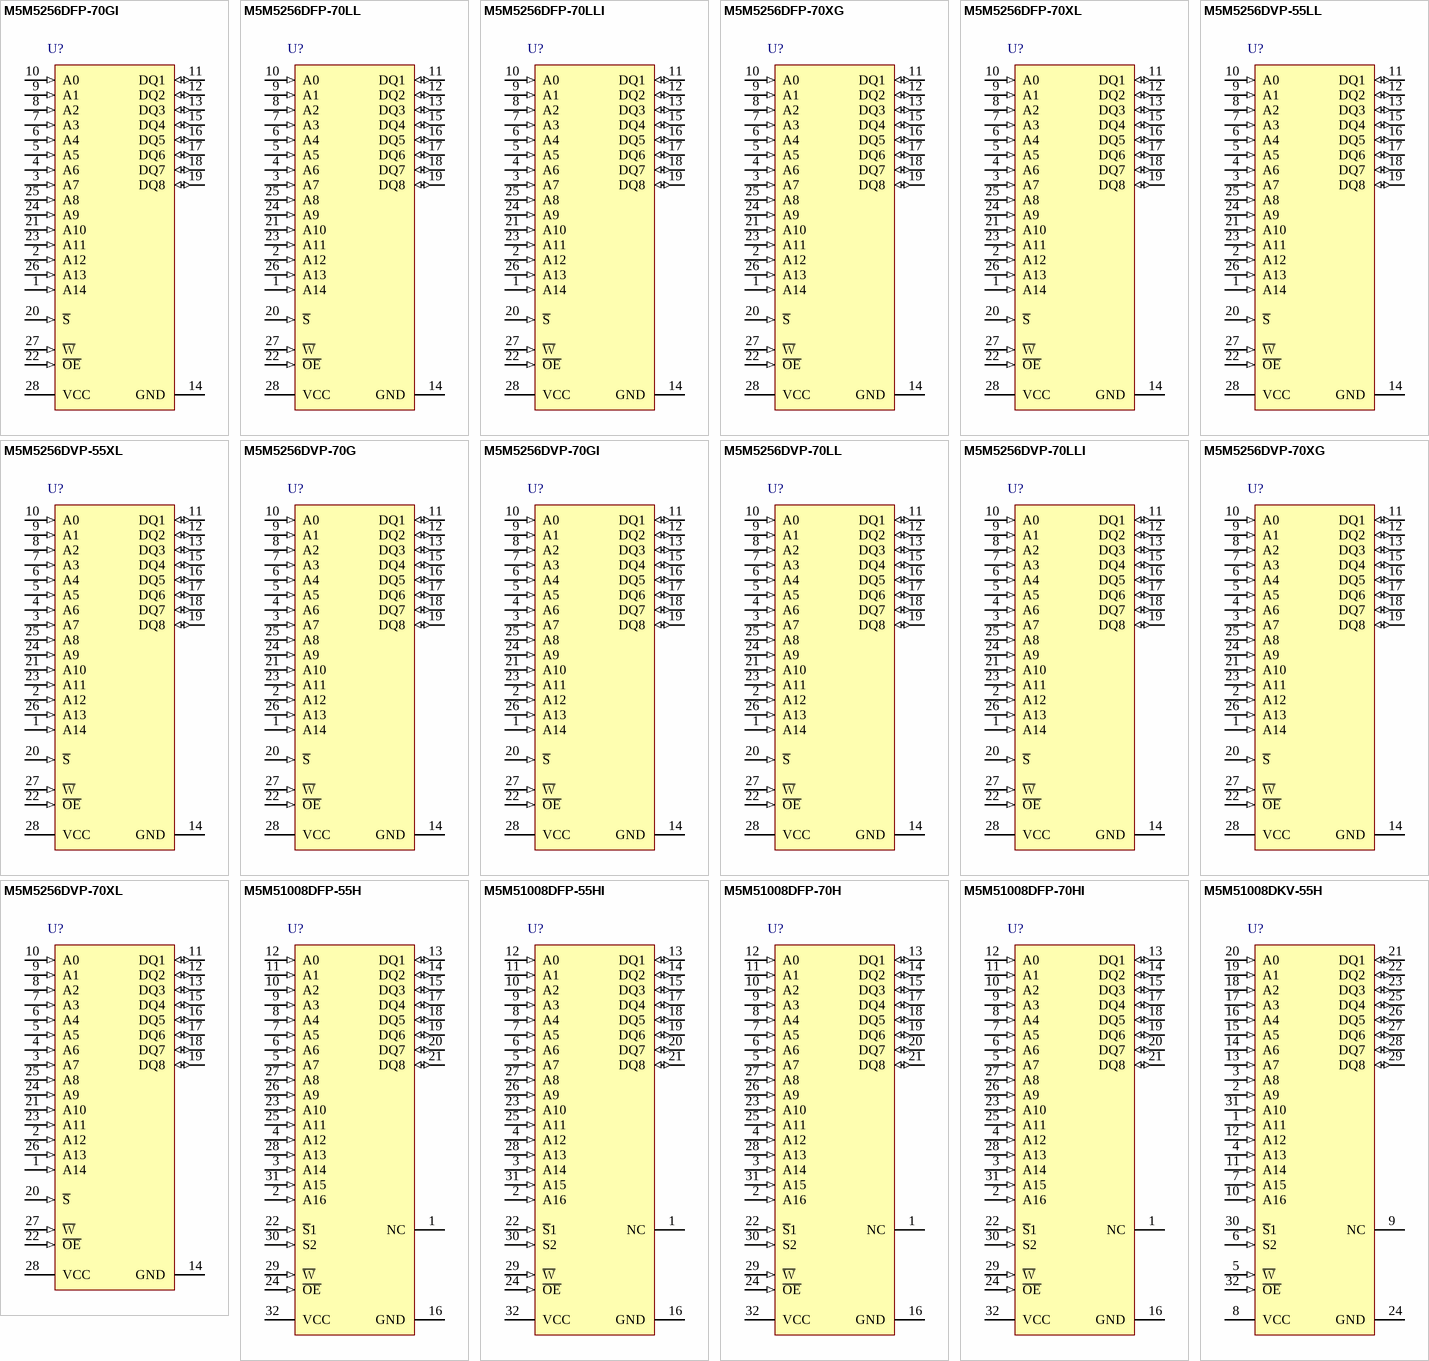
[diagram p4: symbols M5M5256DFP-70GI to M5M51008DKV-55H]

## M5M5256DFP-70GI
designator U?
262144-bit (32768-word x 8-bit) CMOS SRAM; Published: 3-Mar-2010; DatasheetVersion: Rev.2.1, Feb-2004; PackageVersion: Sep-2005; PackageReference: PRSP0028DB-B; Publisher: Altium Limited; PackageDescription: 28-Pin Small Outline Integrated Circuit 1.27 mm Pitch; Code_JEITA: P-SOP28-8.4x17.5-1.27; ComponentLink1Description: Manufacturer Link; ComponentLink1URL: http://sg.renesas.com/products/memory/memory_category_landing.jsp; ComponentLink2Description: Datasheet; ComponentLink2URL: http://documentation.renesas.com/eng/products/memory/rej03c0055_m5m5256dfp.pdf; ComponentLink3Description: Packaging Specification; ComponentLink3URL: http://sg.renesas.com/media/products/common_info/package/pdf/ic/code/prsp0028db_b.pdf
footprint PRSP0028DB-B_N (SOIC, 28-Leads, Body 17.5x8.4mm, Pitch 1.27mm, IPC Medium Density)
footprint PRSP0028DB-B_L (SOIC, 28-Leads, Body 17.5x8.4mm, Pitch 1.27mm, IPC High Density)
footprint PRSP0028DB-B_M (SOIC, 28-Leads, Body 17.5x8.4mm, Pitch 1.27mm, IPC Low Density)
pins: 1 A14 (in), 2 A12 (in), 3 A7 (in), 4 A6 (in), 5 A5 (in), 6 A4 (in), 7 A3 (in), 8 A2 (in), 9 A1 (in), 10 A0 (in), 11 DQ1 (io), 12 DQ2 (io), 13 DQ3 (io), 14 GND (power), 15 DQ4 (io), 16 DQ5 (io), 17 DQ6 (io), 18 DQ7 (io), 19 DQ8 (io), 20 ~{S} (in), 21 A10 (in), 22 ~{OE} (in), 23 A11 (in), 24 A9 (in), 25 A8 (in), 26 A13 (in), 27 ~{W} (in), 28 VCC (power)

## M5M5256DFP-70LL
designator U?
262144-bit (32768-word x 8-bit) CMOS SRAM; Published: 3-Mar-2010; DatasheetVersion: Rev.2.1, Feb-2004; PackageVersion: Sep-2005; PackageReference: PRSP0028DB-B; Publisher: Altium Limited; PackageDescription: 28-Pin Small Outline Integrated Circuit 1.27 mm Pitch; Code_JEITA: P-SOP28-8.4x17.5-1.27; ComponentLink1Description: Manufacturer Link; ComponentLink1URL: http://sg.renesas.com/products/memory/memory_category_landing.jsp; ComponentLink2Description: Datasheet; ComponentLink2URL: http://documentation.renesas.com/eng/products/memory/rej03c0055_m5m5256dfp.pdf; ComponentLink3Description: Packaging Specification; ComponentLink3URL: http://sg.renesas.com/media/products/common_info/package/pdf/ic/code/prsp0028db_b.pdf
footprint PRSP0028DB-B_N (SOIC, 28-Leads, Body 17.5x8.4mm, Pitch 1.27mm, IPC Medium Density)
footprint PRSP0028DB-B_L (SOIC, 28-Leads, Body 17.5x8.4mm, Pitch 1.27mm, IPC High Density)
footprint PRSP0028DB-B_M (SOIC, 28-Leads, Body 17.5x8.4mm, Pitch 1.27mm, IPC Low Density)
pins: 1 A14 (in), 2 A12 (in), 3 A7 (in), 4 A6 (in), 5 A5 (in), 6 A4 (in), 7 A3 (in), 8 A2 (in), 9 A1 (in), 10 A0 (in), 11 DQ1 (io), 12 DQ2 (io), 13 DQ3 (io), 14 GND (power), 15 DQ4 (io), 16 DQ5 (io), 17 DQ6 (io), 18 DQ7 (io), 19 DQ8 (io), 20 ~{S} (in), 21 A10 (in), 22 ~{OE} (in), 23 A11 (in), 24 A9 (in), 25 A8 (in), 26 A13 (in), 27 ~{W} (in), 28 VCC (power)

## M5M5256DFP-70LLI
designator U?
262144-bit (32768-word x 8-bit) CMOS SRAM; Published: 3-Mar-2010; DatasheetVersion: Rev.2.1, Feb-2004; PackageVersion: Sep-2005; PackageReference: PRSP0028DB-B; Publisher: Altium Limited; PackageDescription: 28-Pin Small Outline Integrated Circuit 1.27 mm Pitch; Code_JEITA: P-SOP28-8.4x17.5-1.27; ComponentLink1Description: Manufacturer Link; ComponentLink1URL: http://sg.renesas.com/products/memory/memory_category_landing.jsp; ComponentLink2Description: Datasheet; ComponentLink2URL: http://documentation.renesas.com/eng/products/memory/rej03c0055_m5m5256dfp.pdf; ComponentLink3Description: Packaging Specification; ComponentLink3URL: http://sg.renesas.com/media/products/common_info/package/pdf/ic/code/prsp0028db_b.pdf
footprint PRSP0028DB-B_N (SOIC, 28-Leads, Body 17.5x8.4mm, Pitch 1.27mm, IPC Medium Density)
footprint PRSP0028DB-B_L (SOIC, 28-Leads, Body 17.5x8.4mm, Pitch 1.27mm, IPC High Density)
footprint PRSP0028DB-B_M (SOIC, 28-Leads, Body 17.5x8.4mm, Pitch 1.27mm, IPC Low Density)
pins: 1 A14 (in), 2 A12 (in), 3 A7 (in), 4 A6 (in), 5 A5 (in), 6 A4 (in), 7 A3 (in), 8 A2 (in), 9 A1 (in), 10 A0 (in), 11 DQ1 (io), 12 DQ2 (io), 13 DQ3 (io), 14 GND (power), 15 DQ4 (io), 16 DQ5 (io), 17 DQ6 (io), 18 DQ7 (io), 19 DQ8 (io), 20 ~{S} (in), 21 A10 (in), 22 ~{OE} (in), 23 A11 (in), 24 A9 (in), 25 A8 (in), 26 A13 (in), 27 ~{W} (in), 28 VCC (power)

## M5M5256DFP-70XG
designator U?
262144-bit (32768-word x 8-bit) CMOS SRAM; Published: 3-Mar-2010; DatasheetVersion: Rev.2.1, Feb-2004; PackageVersion: Sep-2005; PackageReference: PRSP0028DB-B; Publisher: Altium Limited; PackageDescription: 28-Pin Small Outline Integrated Circuit 1.27 mm Pitch; Code_JEITA: P-SOP28-8.4x17.5-1.27; ComponentLink1Description: Manufacturer Link; ComponentLink1URL: http://sg.renesas.com/products/memory/memory_category_landing.jsp; ComponentLink2Description: Datasheet; ComponentLink2URL: http://documentation.renesas.com/eng/products/memory/rej03c0055_m5m5256dfp.pdf; ComponentLink3Description: Packaging Specification; ComponentLink3URL: http://sg.renesas.com/media/products/common_info/package/pdf/ic/code/prsp0028db_b.pdf
footprint PRSP0028DB-B_N (SOIC, 28-Leads, Body 17.5x8.4mm, Pitch 1.27mm, IPC Medium Density)
footprint PRSP0028DB-B_L (SOIC, 28-Leads, Body 17.5x8.4mm, Pitch 1.27mm, IPC High Density)
footprint PRSP0028DB-B_M (SOIC, 28-Leads, Body 17.5x8.4mm, Pitch 1.27mm, IPC Low Density)
pins: 1 A14 (in), 2 A12 (in), 3 A7 (in), 4 A6 (in), 5 A5 (in), 6 A4 (in), 7 A3 (in), 8 A2 (in), 9 A1 (in), 10 A0 (in), 11 DQ1 (io), 12 DQ2 (io), 13 DQ3 (io), 14 GND (power), 15 DQ4 (io), 16 DQ5 (io), 17 DQ6 (io), 18 DQ7 (io), 19 DQ8 (io), 20 ~{S} (in), 21 A10 (in), 22 ~{OE} (in), 23 A11 (in), 24 A9 (in), 25 A8 (in), 26 A13 (in), 27 ~{W} (in), 28 VCC (power)

## M5M5256DFP-70XL
designator U?
262144-bit (32768-word x 8-bit) CMOS SRAM; Published: 3-Mar-2010; DatasheetVersion: Rev.2.1, Feb-2004; PackageVersion: Sep-2005; PackageReference: PRSP0028DB-B; Publisher: Altium Limited; PackageDescription: 28-Pin Small Outline Integrated Circuit 1.27 mm Pitch; Code_JEITA: P-SOP28-8.4x17.5-1.27; ComponentLink1Description: Manufacturer Link; ComponentLink1URL: http://sg.renesas.com/products/memory/memory_category_landing.jsp; ComponentLink2Description: Datasheet; ComponentLink2URL: http://documentation.renesas.com/eng/products/memory/rej03c0055_m5m5256dfp.pdf; ComponentLink3Description: Packaging Specification; ComponentLink3URL: http://sg.renesas.com/media/products/common_info/package/pdf/ic/code/prsp0028db_b.pdf
footprint PRSP0028DB-B_N (SOIC, 28-Leads, Body 17.5x8.4mm, Pitch 1.27mm, IPC Medium Density)
footprint PRSP0028DB-B_L (SOIC, 28-Leads, Body 17.5x8.4mm, Pitch 1.27mm, IPC High Density)
footprint PRSP0028DB-B_M (SOIC, 28-Leads, Body 17.5x8.4mm, Pitch 1.27mm, IPC Low Density)
pins: 1 A14 (in), 2 A12 (in), 3 A7 (in), 4 A6 (in), 5 A5 (in), 6 A4 (in), 7 A3 (in), 8 A2 (in), 9 A1 (in), 10 A0 (in), 11 DQ1 (io), 12 DQ2 (io), 13 DQ3 (io), 14 GND (power), 15 DQ4 (io), 16 DQ5 (io), 17 DQ6 (io), 18 DQ7 (io), 19 DQ8 (io), 20 ~{S} (in), 21 A10 (in), 22 ~{OE} (in), 23 A11 (in), 24 A9 (in), 25 A8 (in), 26 A13 (in), 27 ~{W} (in), 28 VCC (power)